# Altium integrated library Linear Technology PMIC-Switching Reg LTC1174-LTC3901.IntLib: 2647 symbols (part 83 of 310)
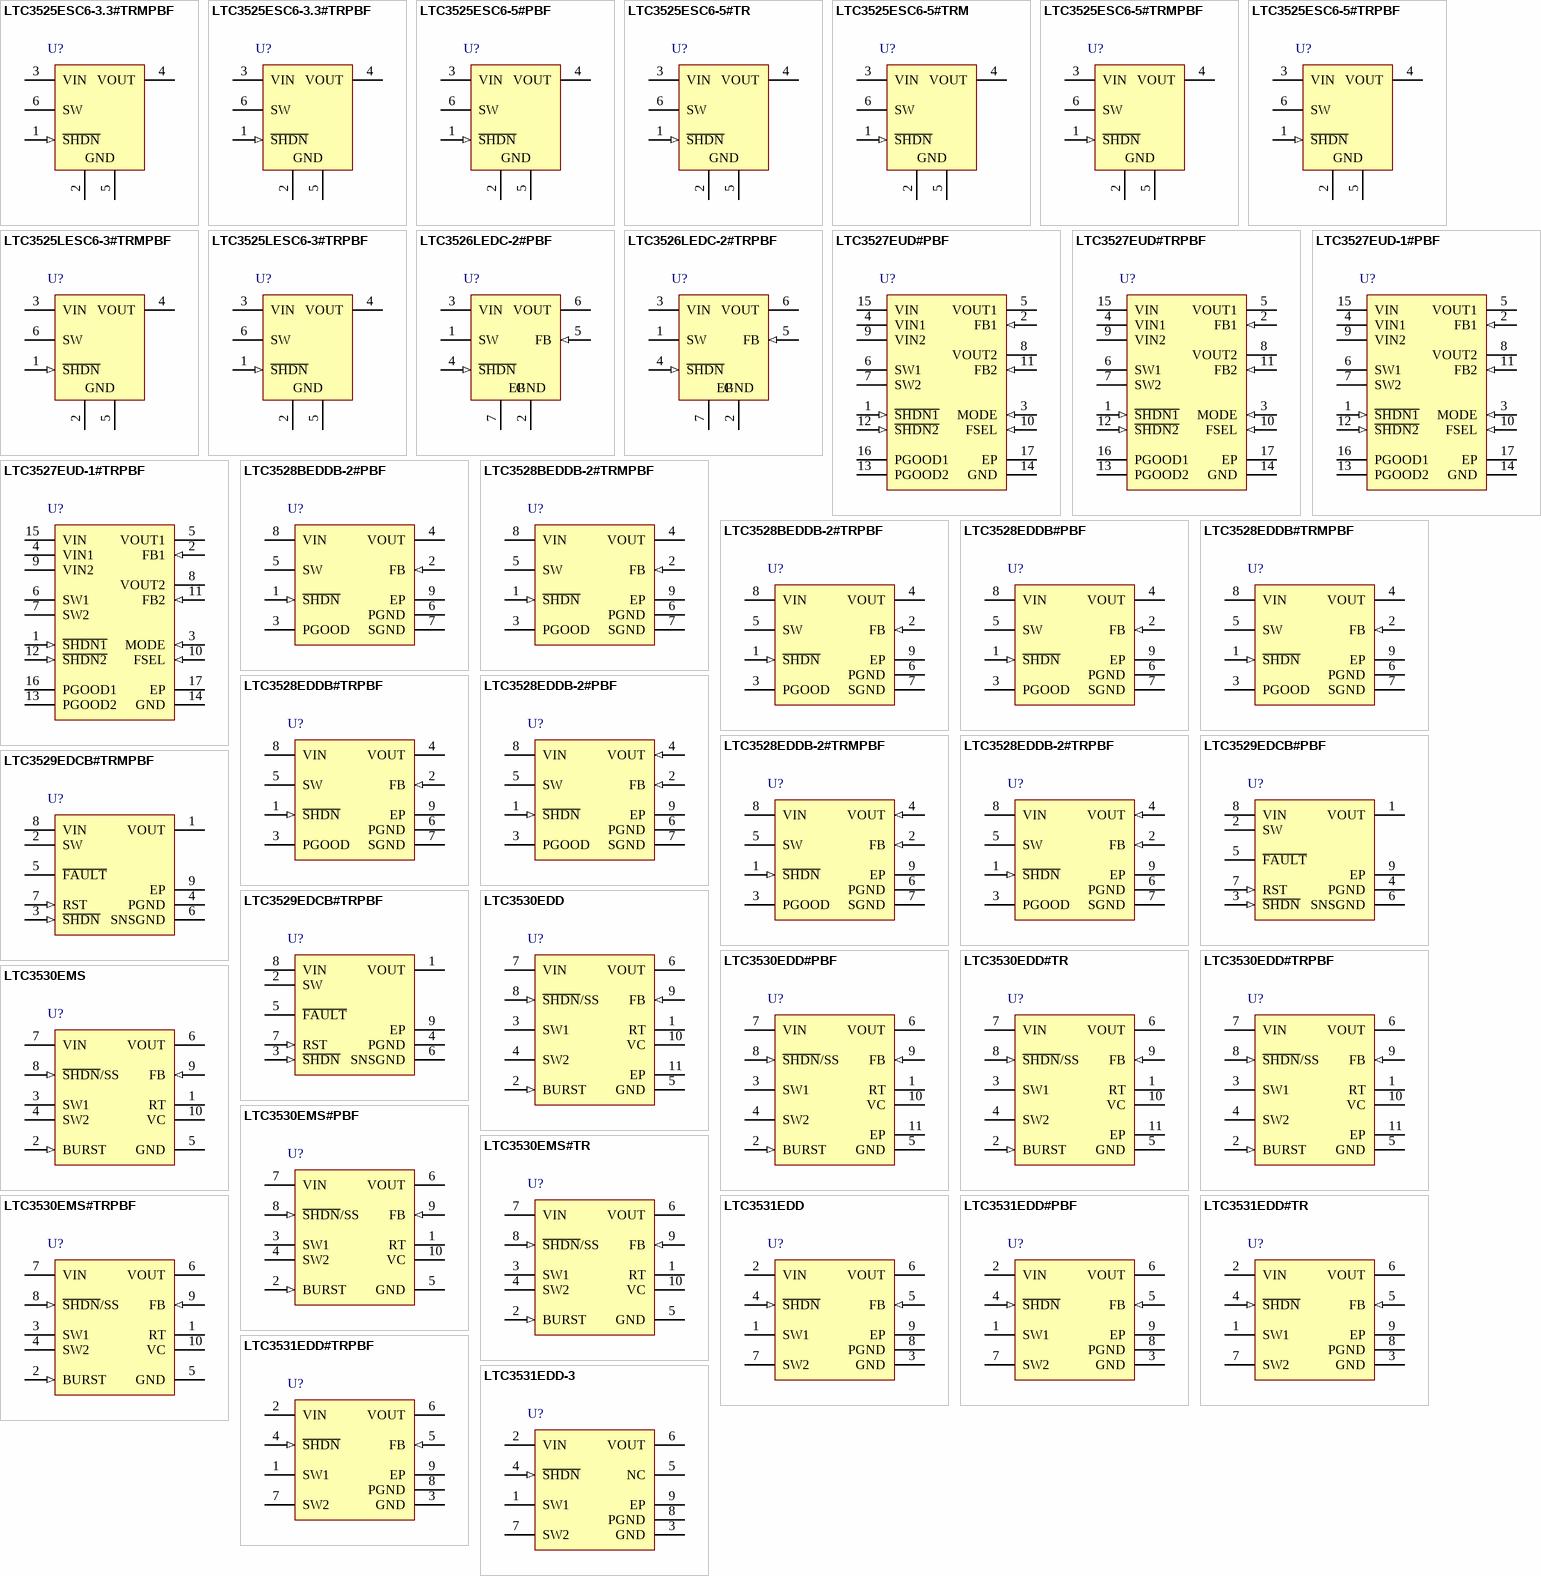
[diagram p262: symbols LTC3525ESC6-3.3#TRMPBF to LTC3531EDD-3]

## LTC3530EDD#TRPBF
designator U?
Wide Input Voltage Synchronous Buck-Boost DC/DC Converter, 10-pin SON (DD-10), -40 to 85 degC, Pb-Free, Tape and Reel; Manufacturer: Linear Technology; PartNumber: LTC3530EDD#TRPBF; Number of Outputs: 1; PackageReference: DD-10; PackageDescription: 10-Pin Plastic DFN, Body 3 x 3 mm, Pitch 0.5 mm; Supplier 1: Digi-Key; Supplier Part Number 1: LTC3530EDD#TRPBF-ND; RoHS: TRUE; Code_JEDEC: MO-229
footprint LT-DD-10_V (SON, 10-Leads, Body 3x3mm, Pitch 0.5mm, Thermal Pad 2.38x1.65mm)
pins: 1 RT "Programs the Frequency of the Internal Oscillator. Connect a resister from RT to ground. f(kHz) = 33,170/RT (kohm)", 2 BURST (in) "Used to Set the Automatic Burst Mode Threshold. Connect a resistor and capacitor in parallel from this pin to ground. See the Applications Information section for component value selection. For manual control, ground the pin (See Datasheet)", 3 SW1 "Switch Pin Where the Internal Switches A and B are Connected. Connect inductor from SW1 to SW2. An optional Schottky diode can be connnected from SW1 to ground for a moderate efficiency improvement. Minimize trace length to (See Datasheet)", 4 SW2 "Switch Pin Where the Internal Switches C and D are Connected. For applications with output voltages over 4.3V, a Schottky diode is required from SW2 to VOUT to ensure the SW pin does not exhibit excessive voltage.", 5 GND (power) "Ground for the IC.", 6 VOUT (power) "Output of the Synchronous Rectifier. A filter capacitor is placed from VOUT to GND. A ceramic bypass capacitor is recommended as close to the VOUT and GND pins as possible.", 7 VIN (power) "Input Supply Voltage. Internal VCC for the IC. A 10uF ceramic capacitor is recommended as close to the VIN and GND pins as possible.", 8 ~{SHDN}/SS (in) "Combined Soft-Start and Shutdown. Applied voltage <0.4V shuts down the IC. Tie to >1.4V to enable the IC and >1.6V to ensure the error amp is not clamped from soft-start. An R-C from the shutdown command signal to this pin (See Datasheet)", 9 FB (in) "Feedback Pin. Connect resistor divider tap here. The output voltage can be adjusted from 1.8V to 5.25V. The feedback reference is typically 1.215V.", 10 VC "Error Amp Output. An R-C network is connected from this pin to FB for loop compensation. Refer to “Closing the Feedback Loop?section for component selection guidelines. During Burst Mode operation, VC is interna(See Datasheet)", 11 EP (power) "Ground. This pin must be soldered to the PCB and electrically connected to ground."

## LTC3530EMS
designator U?
Wide Input Voltage Synchronous Buck-Boost DC/DC Converter, 10-pin SOP (MS-10), -40 to 85 degC; Manufacturer: Linear Technology; PartNumber: LTC3530EMS; Number of Outputs: 1; PackageReference: MS-10; PackageDescription: 10-Pin Plastic MSOP, Body 3 x 3 mm, Pitch 0.5 mm; RoHS: FALSE
footprint LT-MS-10_N (SOP, 10-Leads, Body 3.1x3.1mm, Pitch 0.5mm, IPC Medium Density)
footprint LT-MS-10_L (SOP, 10-Leads, Body 3.1x3.1mm, Pitch 0.5mm, IPC High Density)
footprint LT-MS-10_M (SOP, 10-Leads, Body 3.1x3.1mm, Pitch 0.5mm, IPC Low Density)
pins: 1 RT, 2 BURST (in) "Used to Set the Automatic Burst Mode Operation Threshold. Place a resistor and capacitor in parallel from this pin to ground. See the Applications Information section for component value selection. For manual control, ground (See Datasheet)", 3 SW1 "Switch Pin Where the Internal Switches A and B are Connected. Connect inductor from SW1 to SW2. An optional Schottky diode can be connected from SW1 to ground. Minimize trace length to minimize EMI.", 4 SW2 "Switch Pin Where the Internal Switches C and D are Connected. For applications with output voltages over 4.3V, a Schottky diode is required from SW2 to VOUT to ensure SW2 does not exhibit excess voltage.", 5 GND (power) "Signal and Power Ground for the IC.", 6 VOUT (power) "Output of the Synchronous Rectifier. A filter capacitor is placed from VOUT to GND.", 7 VIN (power) "Input Supply Pin. Supplies current to the inductor through SW1 and supplies internal VCC for the IC. A ceramic bypass capacitor as close to the VIN pin and GND (Pin 5) is required.", 8 ~{SHDN}/SS (in), 9 FB (in), 10 VC "Error Amp Output: A frequency compensation network is connected from this pin to the FB pin to compensate the loop. Refer to the Applications Information section for component value selection."